# Altium footprint library VISHAY_IHLP3232DZERR33M01.PcbLib: 1 footprints
Each footprint in its own frame and in the unit in brackets; x right, y up, seen from the top. Pads: shape width x height; smd on the part's side, far side on the other; paste and mask are expansions set on the pad; w line width, h text height; cw(c..) or ccw(c..) is an arc to the next point about the centre after c.
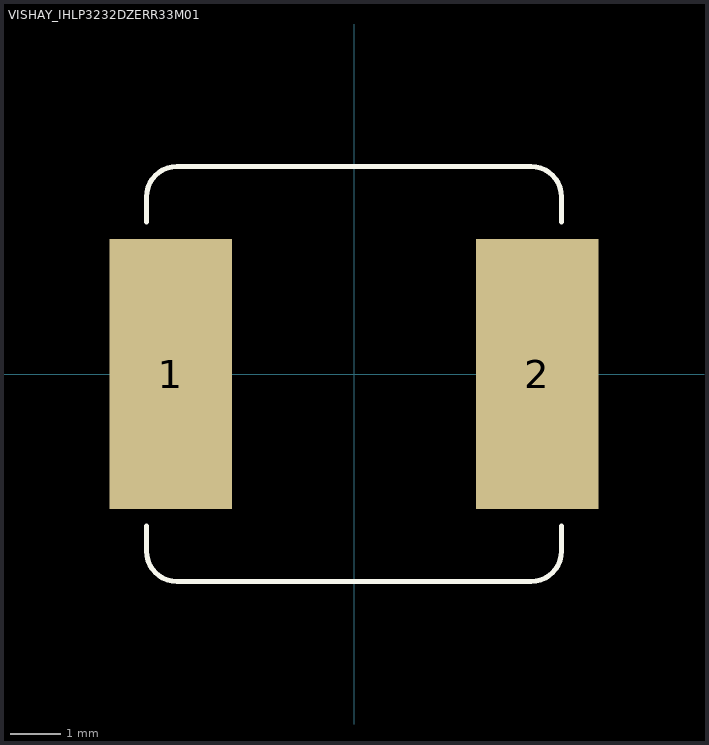
[diagram p0: the footprint, top view; thin cyan lines are the x and y axes]

## VISHAY_IHLP3232DZERR33M01 [mil] "Inductor, Vishay Dale, IHLP3232DZERR33M01"
pads (2):
  rect 95x210 smd: 1(-142.52,0) 2(142.52,0)
Top Overlay:
  lines w3.94: -161.42,-118.11 -161.42,-137.8 ccw(c-137.8,-137.8) -137.8,-161.42 137.8,-161.42 ccw(c137.8,-137.8) 161.42,-137.8 161.42,-118.11 ; -161.42,118.11 -161.42,137.8 cw(c-137.8,137.8) -137.8,161.42 0,161.42 137.8,161.42 cw(c137.8,137.8) 161.42,137.8 161.42,118.11